# Altium schematic symbol library 74AHCT132PW_118.SchLib: 1 symbol
Pins are listed as number, name and electrical type; pins without a type are passive.

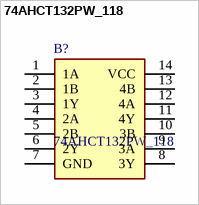
[diagram p0: symbol 74AHCT132PW_118]

## 74AHCT132PW_118
designator B?
74AHC(T)132 - Quad 2-input NAND Schmitt trigger@en-us; Manufacturer_Name: Nexperia; Manufacturer_Part_Number: 74AHCT132PW,118; Geometry.Height: 1.1mm; Mouser Part Number: 771-AHCT132PW118; Mouser Price/Stock: https://www.mouser.co.uk/ProductDetail/Nexperia/74AHCT132PW118?qs=P62ublwmbi98EdtQFmm67Q%3D%3D; Datasheet Link: https://assets.nexperia.com/documents/data-sheet/74AHC_AHCT132.pdf
footprint SOP65P640X110-14N
pins: 1 1A, 2 1B, 3 1Y, 4 2A, 5 2B, 6 2Y, 7 GND, 8 3Y, 9 3A, 10 3B, 11 4Y, 12 4A, 13 4B, 14 VCC